# Altium schematic symbol library BAT 80 LF105-12.SCHLIB: 6 symbols
Pins are listed as number, name and electrical type; pins without a type are passive.

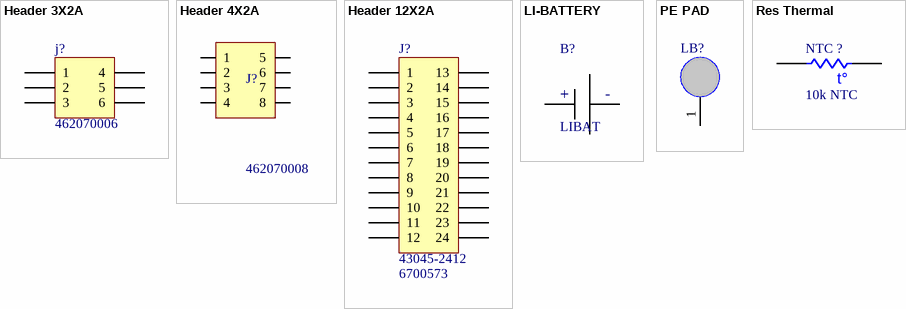
[diagram p0: symbols Header 3X2A to Res Thermal]

## Header 3X2A
designator j?, comment 462070006
MOLEX 46207-0006; LatestRevisionDate: 17-Jul-2002; LatestRevisionNote: Re-released for DXP Platform.; Publisher: Altium Limited
signal-integrity model Connector
footprint MINIFIT JR 6 VER (Footprint not found)
pins: 1, 2, 3, 4, 5, 6

## Header 4X2A
designator J?, comment 462070008
CONN HEADER VERT 8POS 4.2MM; LatestRevisionDate: 17-Jul-2002; LatestRevisionNote: Re-released for DXP Platform.; Publisher: Altium Limited
signal-integrity model Connector
footprint MINIFIT JR 8 VER (Footprint not found)
pins: 1, 2, 3, 4, 5, 6, 7, 8

## Header 12X2A
designator J?, comment 43045-2412  Supplier Part Number 1: 6700573
MOLEX 43045-2412; LatestRevisionDate: 17-Jul-2002; LatestRevisionNote: Re-released for DXP Platform.; Publisher: Altium Limited; Supplier 1: RSComponents
signal-integrity model Connector
footprint MICROFIT 24 VER
pins: 1, 2, 3, 4, 5, 6, 7, 8, 9, 10, 11, 12, 13, 14, 15, 16, 17, 18, 19, 20, 21, 22, 23, 24

## LI-BATTERY
designator B?, comment LIBAT
LF 105
footprint BAT-EVEN (Footprint not found)
footprint LF105
pins: 1, 2
text: +; -

## PE PAD
designator LB?  (value not drawn)
footprint LAYERBOX-4 (LAYER MARKER BOX 4 LAYER)
pins: 1

## Res Thermal
designator NTC ?, comment 10k NTC
Vishay NTCS0805E3103FLT; Published: 24-Mar-1999; LatestRevisionDate: 04-Mar-2005; LatestRevisionNote: PCB Footprint replaced.; PackageReference: 6-0805; Publisher: Altium Limited
footprint 6-0805 (Chip Resistor; Body 2.0 x 1.3 mm (LxW typ))
footprint C0805
footprint NTC0805
footprint NTC0805-HC
pins: 1, 2
text: t°